# Altium integrated library TLRH3APTTE47L0F.IntLib: 1 symbol
Pins are listed as number, name and electrical type; pins without a type are passive.

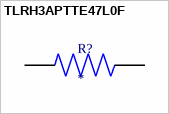
[diagram p0: symbol TLRH3APTTE47L0F]

## TLRH3APTTE47L0F
designator R?
Res Metal Plate 2512 0.047 Ohm 1% 4W Â±50ppm/C Pad SMD Automotive T/R; MP: TLRH3APTTE47L0F; Package: None; Price: None; Value: *; Availability: Unavailable
footprint RESC6332X70N
pins: 1, 2